# EAGLE library part SRV05-4 (library digital_dash)
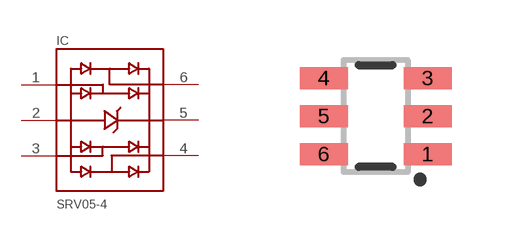
[diagram p13: symbol with the pads of SOT23-6; footprint SOT23-6]

Designator prefix IC

## SRV05-4  [SOT23-6]
1  P$1
2  P$2
3  P$3
4  P$4
5  P$5
6  P$6

## Footprint SOT23-6 (pad centres in mm)
SOT23-6 Specifications: Pin count: 6 Example device(s): MCP4725
smd 1.2 x 0.55: 1 1.3,-1; 2 1.3,-0.05; 3 1.3,0.9; 4 -1.3,0.9; 5 -1.3,-0.05; 6 -1.3,-1